# EAGLE library part LTC3414 (library PowerProducts)
LT-Spice library generated with : ltspice.ulp from: D:/Program Files (x86)/LTC/LTspiceIV/lib/sym/PowerProducts/LTC3415*.asy at 07.10.2012 18:03:56
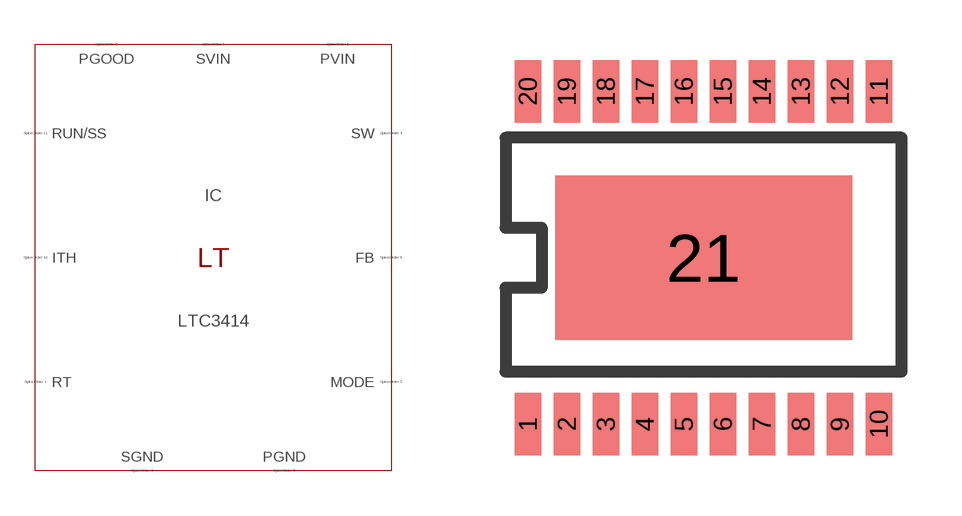
[diagram p174: symbol with the pads of TSSOP20CA(FE); footprint TSSOP20CA(FE)]

Designator prefix IC

## LTC3414 (SPICEMODEL: LTC3414.sub; SPICEPREFIX: X; VALUE2: LTC3414)  [TSSOP20CA(FE)]
1  PGND  pas
2  RT  pas
3  MODE  pas
4  RUN/SS  pas
5  SGND  pas
7  PVIN  pas
8  SW  pas
9  SW  pas
10  PGND  pas
11  PGND  pas
12  SW  pas
13  SW  pas
14  PVIN  pas
16  SVIN  pas
17  PGOOD  pas
18  ITH  pas
19  FB  pas
20  PGND  pas
21  SGND  pas

## Footprint TSSOP20CA(FE) (pad centres in mm)
Package generated from: TSSOP20CA(FE).asc (!PADS-POWERPCB-V5.0-BASIC! DESIGN DATABASE ASCII FILE 1.0) with :import-pads-powerpcb-v5.ulp Version 1.0.1 at 04.10.2012 14:11:40
smd 0.66 x 1.575: 1 -4.388,-4.162; 2 -3.413,-4.162; 3 -2.438,-4.162; 4 -1.462,-4.162; 5 -0.487,-4.162; 6 0.487,-4.162; 7 1.462,-4.162; 8 2.438,-4.162; 9 3.413,-4.162; 10 4.388,-4.162; 11 4.388,4.162; 12 3.413,4.162; 13 2.438,4.162; 14 1.462,4.162; 15 0.487,4.162; 16 -0.487,4.162; 17 -1.462,4.162; 18 -2.438,4.162; 19 -3.413,4.162; 20 -4.388,4.162
smd 7.425 x 4.11: 21 0,0